# Altium schematic symbol library LED.SchLib: 7 symbols
Pins are listed as number, name and electrical type; pins without a type are passive.

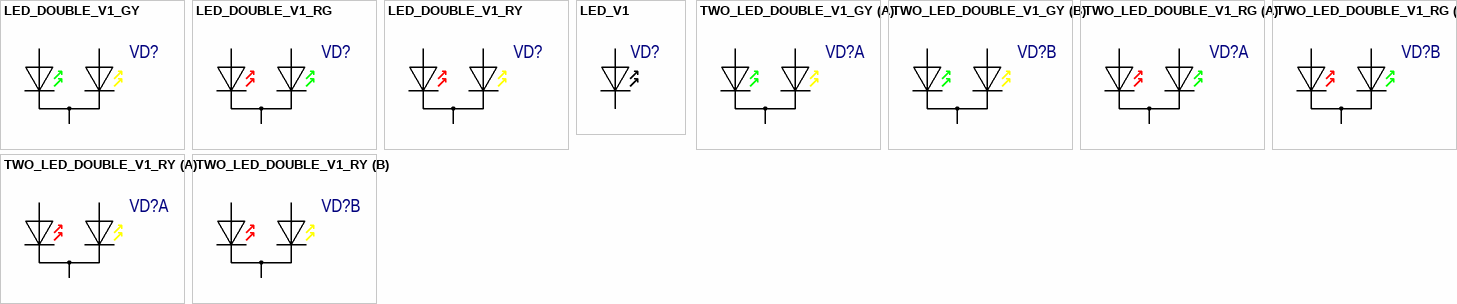
[diagram p0: symbols LED_DOUBLE_V1_GY to TWO_LED_DOUBLE_V1_RY]

## LED_DOUBLE_V1_GY
designator VD?
ManufacturerPartNumber: ManufacturerPartNumber
pins: 1, 2, 3

## LED_DOUBLE_V1_RG
designator VD?
ManufacturerPartNumber: ManufacturerPartNumber
pins: 1, 2, 3

## LED_DOUBLE_V1_RY
designator VD?
ManufacturerPartNumber: ManufacturerPartNumber
pins: 1, 2, 3

## LED_V1
designator VD?
ManufacturerPartNumber: ManufacturerPartNumber
pins: A, K

## TWO_LED_DOUBLE_V1_GY
designator VD?
ManufacturerPartNumber: ManufacturerPartNumber
part A pins: TOP_1, TOP_2, TOP_3
part B pins: BOT_1, BOT_2, BOT_3

## TWO_LED_DOUBLE_V1_RG
designator VD?
ManufacturerPartNumber: ManufacturerPartNumber
part A pins: TOP_1, TOP_2, TOP_3
part B pins: BOT_1, BOT_2, BOT_3

## TWO_LED_DOUBLE_V1_RY
designator VD?
ManufacturerPartNumber: ManufacturerPartNumber
part A pins: TOP_1, TOP_2, TOP_3
part B pins: BOT_1, BOT_2, BOT_3